# Altium schematic symbol library FYLS-0805URC.Schlib: 1 symbol
Pins are listed as number, name and electrical type; pins without a type are passive.

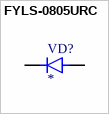
[diagram p0: symbol FYLS-0805URC]

## FYLS-0805URC
designator VD?
Diode Standard 100 V 250mA (DC) Surface Mount SOD-323
pins: 1 K, 2 A